# Altium integrated library ON Semi Signal Management Digital POTs.IntLib: 284 symbols (part 3 of 11)
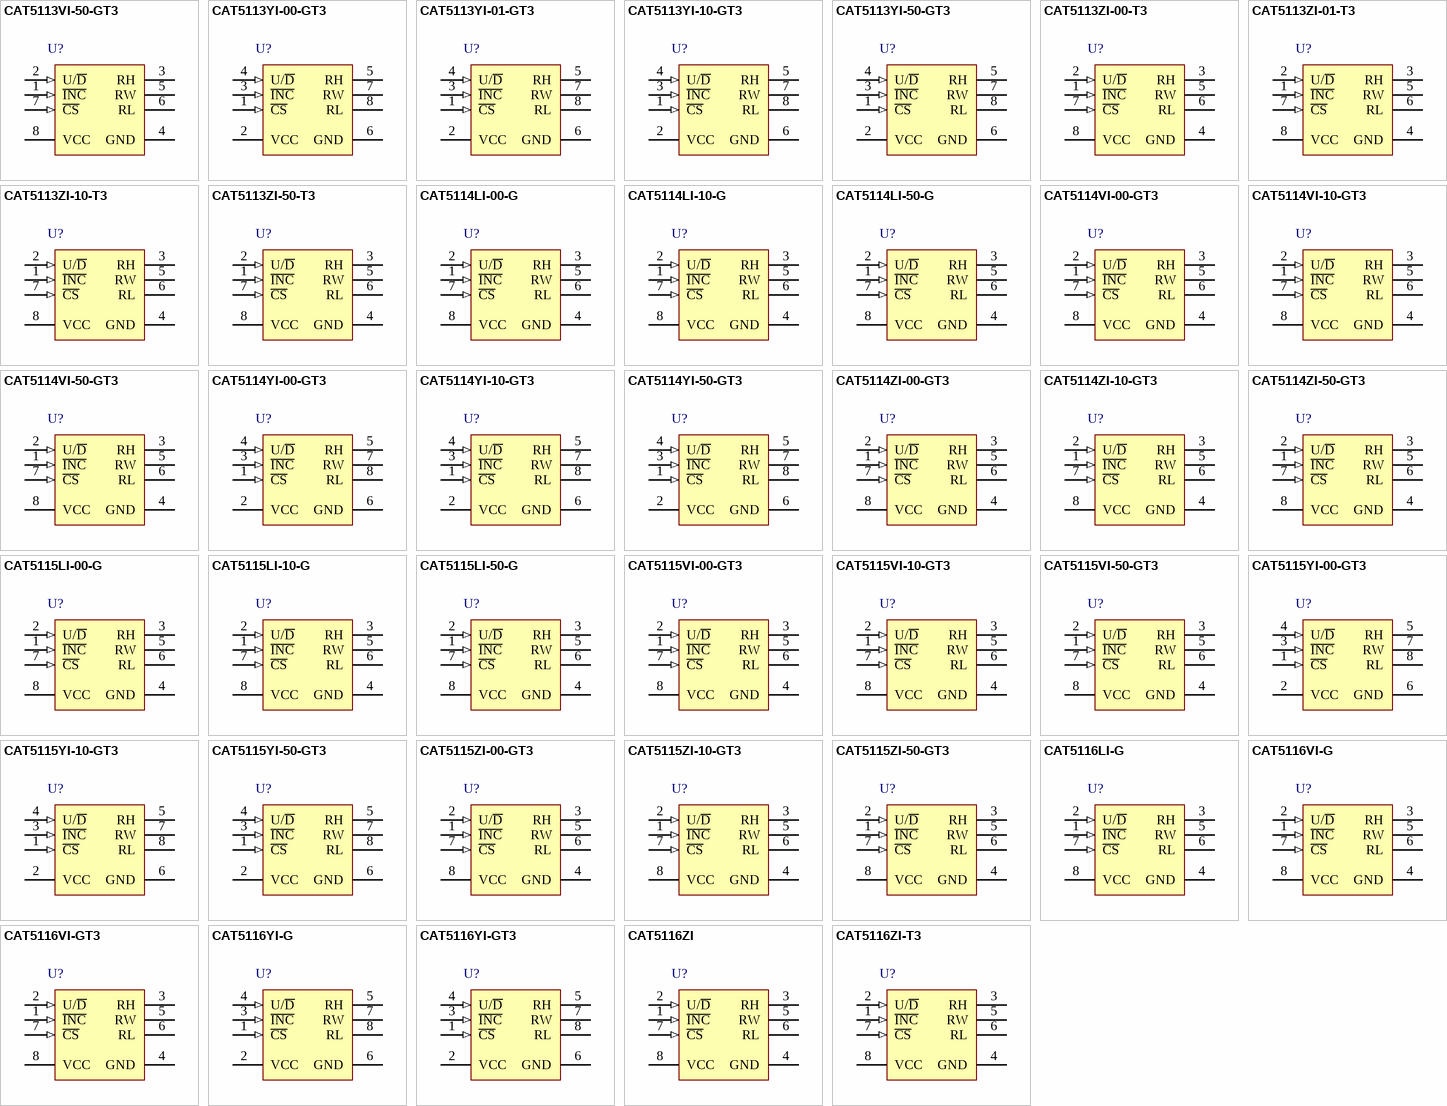
[diagram p11: symbols CAT5113VI-50-GT3 to CAT5116ZI-T3]

## CAT5115VI-10-GT3
designator U?
32 Tap Digital Potentiometer (POT), -40 to 85 degC, 8-Pin SOIC, Pb-Free, Tape and Reel; Manufacturer: On Semiconductor; PartNumber: CAT5115VI-10-GT3; # of Pots: 1; # of Taps: 32; Control Interface: Up/Down; VDD Max (V): 6; DatasheetVersion: Rev. 11; PackageVersion: Rev. O, 12/2008; PackageReference: SOIC-8-751BD-01; PackageDescription: 8-Pin Small Outline Integrated Circuit, Body 4.9 x 3.9 mm, Pitch 1.27 mm; Supplier 1: Mouser; Supplier Part Number 1: 863-CAT5115VI-10-GT3; Packing: Tape and Reel; RoHS: TRUE; Type: Potentiometer; Mounting Technology: Surface Mount; Code_JEDEC: MS-012; ComponentLink1Description: Manufacturer URL; ComponentLink1URL: http://www.onsemi.com/; ComponentLink2Description: Datasheet; ComponentLink2URL: http://www.onsemi.com/pub_link/Collateral/CAT5115-D.PDF; ComponentLink3Description: Package Specification; ComponentLink3URL: http://www.onsemi.com/pub_link/Collateral/751BD.PDF
footprint ONSC-SOIC-8-751BD-01_N (SOIC, 8-Leads, Body 5x4mm, Pitch 1.27mm, IPC Medium Density)
footprint ONSC-SOIC-8-751BD-01_L (SOIC, 8-Leads, Body 5x4mm, Pitch 1.27mm, IPC High Density)
footprint ONSC-SOIC-8-751BD-01_M (SOIC, 8-Leads, Body 5x4mm, Pitch 1.27mm, IPC Low Density)
pins: 1 ~{INC} (in) "Increment Control", 2 U/~{D} (in) "Up/Down Control", 3 RH "Potentiometer High Terminal", 4 GND (power) "Ground", 5 RW, 6 RL "Potentiometer Low Terminal", 7 ~{CS} (in) "Chip Select", 8 VCC (power) "Supply Voltage"

## CAT5115VI-50-GT3
designator U?
32 Tap Digital Potentiometer (POT), -40 to 85 degC, 8-Pin SOIC, Pb-Free, Tape and Reel; Manufacturer: On Semiconductor; PartNumber: CAT5115VI-50-GT3; # of Pots: 1; # of Taps: 32; Control Interface: Up/Down; VDD Max (V): 6; DatasheetVersion: Rev. 11; PackageVersion: Rev. O, 12/2008; PackageReference: SOIC-8-751BD-01; PackageDescription: 8-Pin Small Outline Integrated Circuit, Body 4.9 x 3.9 mm, Pitch 1.27 mm; Supplier 1: Mouser; Supplier Part Number 1: 863-CAT5115VI-50-GT3; Packing: Tape and Reel; RoHS: TRUE; Type: Potentiometer; Mounting Technology: Surface Mount; Code_JEDEC: MS-012; ComponentLink1Description: Manufacturer URL; ComponentLink1URL: http://www.onsemi.com/; ComponentLink2Description: Datasheet; ComponentLink2URL: http://www.onsemi.com/pub_link/Collateral/CAT5115-D.PDF; ComponentLink3Description: Package Specification; ComponentLink3URL: http://www.onsemi.com/pub_link/Collateral/751BD.PDF
footprint ONSC-SOIC-8-751BD-01_N (SOIC, 8-Leads, Body 5x4mm, Pitch 1.27mm, IPC Medium Density)
footprint ONSC-SOIC-8-751BD-01_L (SOIC, 8-Leads, Body 5x4mm, Pitch 1.27mm, IPC High Density)
footprint ONSC-SOIC-8-751BD-01_M (SOIC, 8-Leads, Body 5x4mm, Pitch 1.27mm, IPC Low Density)
pins: 1 ~{INC} (in) "Increment Control", 2 U/~{D} (in) "Up/Down Control", 3 RH "Potentiometer High Terminal", 4 GND (power) "Ground", 5 RW, 6 RL "Potentiometer Low Terminal", 7 ~{CS} (in) "Chip Select", 8 VCC (power) "Supply Voltage"

## CAT5115YI-00-GT3
designator U?
32 Tap Digital Potentiometer (POT), -40 to 85 degC, 8-Pin TSSOP, Pb-Free, Tape and Reel; Manufacturer: On Semiconductor; PartNumber: CAT5115YI-00-GT3; # of Pots: 1; # of Taps: 32; Control Interface: Up/Down; VDD Max (V): 6; DatasheetVersion: Rev. 11; PackageVersion: Rev. O, 12/2008; PackageReference: TSSOP-8-948AL-01; PackageDescription: 8-Pin Small Outline Package, Body 4.4 x 3 mm, Pitch 0.65 mm; Supplier 1: Mouser; Supplier Part Number 1: 863-CAT5115YI-00-GT3; Packing: Tape and Reel; RoHS: TRUE; Type: Potentiometer; Mounting Technology: Surface Mount; Code_JEDEC: MO-153; ComponentLink1Description: Manufacturer URL; ComponentLink1URL: http://www.onsemi.com/; ComponentLink2Description: Datasheet; ComponentLink2URL: http://www.onsemi.com/pub_link/Collateral/CAT5115-D.PDF; ComponentLink3Description: Package Specification; ComponentLink3URL: http://www.onsemi.com/pub/Collateral/948AL.PDF
footprint ONSC-TSSOP-8-948AL-01_N (SOP, 8-Leads, Body 4.5x3.1mm, Pitch 0.65mm, IPC Medium Density)
footprint ONSC-TSSOP-8-948AL-01_L (SOP, 8-Leads, Body 4.5x3.1mm, Pitch 0.65mm, IPC High Density)
footprint ONSC-TSSOP-8-948AL-01_M (SOP, 8-Leads, Body 4.5x3.1mm, Pitch 0.65mm, IPC Low Density)
pins: 1 ~{CS} (in) "Chip Select", 2 VCC (power) "Supply Voltage", 3 ~{INC} (in) "Increment Control", 4 U/~{D} (in) "Up/Down Control", 5 RH "Potentiometer High Terminal", 6 GND (power) "Ground", 7 RW, 8 RL "Potentiometer Low Terminal"

## CAT5115YI-10-GT3
designator U?
32 Tap Digital Potentiometer (POT), -40 to 85 degC, 8-Pin TSSOP, Pb-Free, Tape and Reel; Manufacturer: On Semiconductor; PartNumber: CAT5115YI-10-GT3; # of Pots: 1; # of Taps: 32; Control Interface: Up/Down; VDD Max (V): 6; DatasheetVersion: Rev. 11; PackageVersion: Rev. O, 12/2008; PackageReference: TSSOP-8-948AL-01; PackageDescription: 8-Pin Small Outline Package, Body 4.4 x 3 mm, Pitch 0.65 mm; Supplier 1: Mouser; Supplier Part Number 1: 863-CAT5115YI-10-GT3; Packing: Tape and Reel; RoHS: TRUE; Type: Potentiometer; Mounting Technology: Surface Mount; Code_JEDEC: MO-153; ComponentLink1Description: Manufacturer URL; ComponentLink1URL: http://www.onsemi.com/; ComponentLink2Description: Datasheet; ComponentLink2URL: http://www.onsemi.com/pub_link/Collateral/CAT5115-D.PDF; ComponentLink3Description: Package Specification; ComponentLink3URL: http://www.onsemi.com/pub/Collateral/948AL.PDF
footprint ONSC-TSSOP-8-948AL-01_N (SOP, 8-Leads, Body 4.5x3.1mm, Pitch 0.65mm, IPC Medium Density)
footprint ONSC-TSSOP-8-948AL-01_L (SOP, 8-Leads, Body 4.5x3.1mm, Pitch 0.65mm, IPC High Density)
footprint ONSC-TSSOP-8-948AL-01_M (SOP, 8-Leads, Body 4.5x3.1mm, Pitch 0.65mm, IPC Low Density)
pins: 1 ~{CS} (in) "Chip Select", 2 VCC (power) "Supply Voltage", 3 ~{INC} (in) "Increment Control", 4 U/~{D} (in) "Up/Down Control", 5 RH "Potentiometer High Terminal", 6 GND (power) "Ground", 7 RW, 8 RL "Potentiometer Low Terminal"

## CAT5115YI-50-GT3
designator U?
32 Tap Digital Potentiometer (POT), -40 to 85 degC, 8-Pin TSSOP, Pb-Free, Tape and Reel; Manufacturer: On Semiconductor; PartNumber: CAT5115YI-50-GT3; # of Pots: 1; # of Taps: 32; Control Interface: Up/Down; VDD Max (V): 6; DatasheetVersion: Rev. 11; PackageVersion: Rev. O, 12/2008; PackageReference: TSSOP-8-948AL-01; PackageDescription: 8-Pin Small Outline Package, Body 4.4 x 3 mm, Pitch 0.65 mm; Supplier 1: Mouser; Supplier Part Number 1: 863-CAT5115YI-50-GT3; Packing: Tape and Reel; RoHS: TRUE; Type: Potentiometer; Mounting Technology: Surface Mount; Code_JEDEC: MO-153; ComponentLink1Description: Manufacturer URL; ComponentLink1URL: http://www.onsemi.com/; ComponentLink2Description: Datasheet; ComponentLink2URL: http://www.onsemi.com/pub_link/Collateral/CAT5115-D.PDF; ComponentLink3Description: Package Specification; ComponentLink3URL: http://www.onsemi.com/pub/Collateral/948AL.PDF
footprint ONSC-TSSOP-8-948AL-01_N (SOP, 8-Leads, Body 4.5x3.1mm, Pitch 0.65mm, IPC Medium Density)
footprint ONSC-TSSOP-8-948AL-01_L (SOP, 8-Leads, Body 4.5x3.1mm, Pitch 0.65mm, IPC High Density)
footprint ONSC-TSSOP-8-948AL-01_M (SOP, 8-Leads, Body 4.5x3.1mm, Pitch 0.65mm, IPC Low Density)
pins: 1 ~{CS} (in) "Chip Select", 2 VCC (power) "Supply Voltage", 3 ~{INC} (in) "Increment Control", 4 U/~{D} (in) "Up/Down Control", 5 RH "Potentiometer High Terminal", 6 GND (power) "Ground", 7 RW, 8 RL "Potentiometer Low Terminal"

## CAT5115ZI-00-GT3
designator U?
32 Tap Digital Potentiometer (POT), -40 to 85 degC, 8-Pin MSOP, Pb-Free, Tape and Reel; Manufacturer: On Semiconductor; PartNumber: CAT5115ZI-00-GT3; # of Pots: 1; # of Taps: 32; Control Interface: Up/Down; VDD Max (V): 6; DatasheetVersion: Rev. 11; PackageVersion: Rev. O, 12/2008; PackageReference: MSOP-8-846AD-01_O; PackageDescription: 8-Pin Small Outline Package, Body 3 x 3 mm, Pitch 0.65 mm; Supplier 1: Mouser; Supplier Part Number 1: 863-CAT5115ZI-00-GT3; Packing: Tape and Reel; RoHS: TRUE; Type: Potentiometer; Mounting Technology: Surface Mount; Code_JEDEC: MO-187; ComponentLink1Description: Manufacturer URL; ComponentLink1URL: http://www.onsemi.com/; ComponentLink2Description: Datasheet; ComponentLink2URL: http://www.onsemi.com/pub_link/Collateral/CAT5115-D.PDF; ComponentLink3Description: Package Specification; ComponentLink3URL: http://www.onsemi.com/pub_link/Collateral/846AD.PDF
footprint ONSC-MSOP-8-846AD-01_N (SOP, 8-Leads, Body 3.1x3.1mm, Pitch 0.65mm, IPC Medium Density)
footprint ONSC-MSOP-8-846AD-01_L (SOP, 8-Leads, Body 3.1x3.1mm, Pitch 0.65mm, IPC High Density)
footprint ONSC-MSOP-8-846AD-01_M (SOP, 8-Leads, Body 3.1x3.1mm, Pitch 0.65mm, IPC Low Density)
pins: 1 ~{INC} (in) "Increment Control", 2 U/~{D} (in) "Up/Down Control", 3 RH "Potentiometer High Terminal", 4 GND (power) "Ground", 5 RW, 6 RL "Potentiometer Low Terminal", 7 ~{CS} (in) "Chip Select", 8 VCC (power) "Supply Voltage"

## CAT5115ZI-10-GT3
designator U?
32 Tap Digital Potentiometer (POT), -40 to 85 degC, 8-Pin MSOP, Pb-Free, Tape and Reel; Manufacturer: On Semiconductor; PartNumber: CAT5115ZI-10-GT3; # of Pots: 1; # of Taps: 32; Control Interface: Up/Down; VDD Max (V): 6; DatasheetVersion: Rev. 11; PackageVersion: Rev. O, 12/2008; PackageReference: MSOP-8-846AD-01_O; PackageDescription: 8-Pin Small Outline Package, Body 3 x 3 mm, Pitch 0.65 mm; Supplier 1: Mouser; Supplier Part Number 1: 863-CAT5115ZI-10-GT3; Packing: Tape and Reel; RoHS: TRUE; Type: Potentiometer; Mounting Technology: Surface Mount; Code_JEDEC: MO-187; ComponentLink1Description: Manufacturer URL; ComponentLink1URL: http://www.onsemi.com/; ComponentLink2Description: Datasheet; ComponentLink2URL: http://www.onsemi.com/pub_link/Collateral/CAT5115-D.PDF; ComponentLink3Description: Package Specification; ComponentLink3URL: http://www.onsemi.com/pub_link/Collateral/846AD.PDF
footprint ONSC-MSOP-8-846AD-01_N (SOP, 8-Leads, Body 3.1x3.1mm, Pitch 0.65mm, IPC Medium Density)
footprint ONSC-MSOP-8-846AD-01_L (SOP, 8-Leads, Body 3.1x3.1mm, Pitch 0.65mm, IPC High Density)
footprint ONSC-MSOP-8-846AD-01_M (SOP, 8-Leads, Body 3.1x3.1mm, Pitch 0.65mm, IPC Low Density)
pins: 1 ~{INC} (in) "Increment Control", 2 U/~{D} (in) "Up/Down Control", 3 RH "Potentiometer High Terminal", 4 GND (power) "Ground", 5 RW, 6 RL "Potentiometer Low Terminal", 7 ~{CS} (in) "Chip Select", 8 VCC (power) "Supply Voltage"

## CAT5115ZI-50-GT3
designator U?
32 Tap Digital Potentiometer (POT), -40 to 85 degC, 8-Pin MSOP, Pb-Free, Tape and Reel; Manufacturer: On Semiconductor; PartNumber: CAT5115ZI-50-GT3; # of Pots: 1; # of Taps: 32; Control Interface: Up/Down; VDD Max (V): 6; DatasheetVersion: Rev. 11; PackageVersion: Rev. O, 12/2008; PackageReference: MSOP-8-846AD-01_O; PackageDescription: 8-Pin Small Outline Package, Body 3 x 3 mm, Pitch 0.65 mm; Supplier 1: Mouser; Supplier Part Number 1: 863-CAT5115ZI-50-GT3; Packing: Tape and Reel; RoHS: TRUE; Type: Potentiometer; Mounting Technology: Surface Mount; Code_JEDEC: MO-187; ComponentLink1Description: Manufacturer URL; ComponentLink1URL: http://www.onsemi.com/; ComponentLink2Description: Datasheet; ComponentLink2URL: http://www.onsemi.com/pub_link/Collateral/CAT5115-D.PDF; ComponentLink3Description: Package Specification; ComponentLink3URL: http://www.onsemi.com/pub_link/Collateral/846AD.PDF
footprint ONSC-MSOP-8-846AD-01_N (SOP, 8-Leads, Body 3.1x3.1mm, Pitch 0.65mm, IPC Medium Density)
footprint ONSC-MSOP-8-846AD-01_L (SOP, 8-Leads, Body 3.1x3.1mm, Pitch 0.65mm, IPC High Density)
footprint ONSC-MSOP-8-846AD-01_M (SOP, 8-Leads, Body 3.1x3.1mm, Pitch 0.65mm, IPC Low Density)
pins: 1 ~{INC} (in) "Increment Control", 2 U/~{D} (in) "Up/Down Control", 3 RH "Potentiometer High Terminal", 4 GND (power) "Ground", 5 RW, 6 RL "Potentiometer Low Terminal", 7 ~{CS} (in) "Chip Select", 8 VCC (power) "Supply Voltage"

## CAT5116LI-G
designator U?
Log Taper, 100 Tap Digital Potentiometer (POT), -40 to 85 degC, 8-Pin PDIP, Pb-Free, Tube; Manufacturer: On Semiconductor; PartNumber: CAT5116LI-G; # of Pots: 1; # of Taps: 100; Control Interface: Up/Down; VDD Max (V): 5.5; DatasheetVersion: Rev. 14; PackageVersion: Rev. A, 03/2009; PackageReference: PDIP-8-646AA-01; PackageDescription: 8-Pin Plastic Dual-In Line Package, Body 9.59 x 6.605 mm, Pitch 2.54 mm; Supplier 1: Mouser; Supplier Part Number 1: 698-CAT5116LI-G; Packing: Tube; RoHS: TRUE; Type: Potentiometer; Mounting Technology: Through Hole; Code_JEDEC: MS-001; ComponentLink1Description: Manufacturer URL; ComponentLink1URL: http://www.onsemi.com/; ComponentLink2Description: Datasheet; ComponentLink2URL: http://www.onsemi.com/pub_link/Collateral/CAT5116-D.PDF; ComponentLink3Description: Package Specification; ComponentLink3URL: http://www.onsemi.com/pub_link/Collateral/646AA.PDF
footprint ONSC-PDIP-8-646AA-01 (DIP, 8-Leads, Body 10.15x7.1mm, Pitch 2.54mm)
pins: 1 ~{INC} (in) "Increment Control", 2 U/~{D} (in) "Up/Down Control", 3 RH "Potentiometer High Terminal", 4 GND (power) "Ground", 5 RW, 6 RL "Potentiometer Low Terminal", 7 ~{CS} (in) "Chip Select", 8 VCC (power) "Supply Voltage"

## CAT5116VI-G
designator U?
Log Taper, 100 Tap Digital Potentiometer (POT), -40 to 85 degC, 8-Pin SOIC, Pb-Free, Tube; Manufacturer: On Semiconductor; PartNumber: CAT5116VI-G; # of Pots: 1; # of Taps: 100; Control Interface: Up/Down; VDD Max (V): 5.5; DatasheetVersion: Rev. 14; PackageVersion: Rev. O, 12/2008; PackageReference: SOIC-8-751BD-01; PackageDescription: 8-Pin Small Outline Integrated Circuit, Body 4.9 x 3.9 mm, Pitch 1.27 mm; Supplier 1: Mouser; Supplier Part Number 1: 698-CAT5116VI-G; Packing: Tube; RoHS: TRUE; Type: Potentiometer; Mounting Technology: Surface Mount; Code_JEDEC: MS-012; ComponentLink1Description: Manufacturer URL; ComponentLink1URL: http://www.onsemi.com/; ComponentLink2Description: Datasheet; ComponentLink2URL: http://www.onsemi.com/pub_link/Collateral/CAT5116-D.PDF; ComponentLink3Description: Package Specification; ComponentLink3URL: http://www.onsemi.com/pub_link/Collateral/751BD.PDF
footprint ONSC-SOIC-8-751BD-01_N (SOIC, 8-Leads, Body 5x4mm, Pitch 1.27mm, IPC Medium Density)
footprint ONSC-SOIC-8-751BD-01_L (SOIC, 8-Leads, Body 5x4mm, Pitch 1.27mm, IPC High Density)
footprint ONSC-SOIC-8-751BD-01_M (SOIC, 8-Leads, Body 5x4mm, Pitch 1.27mm, IPC Low Density)
pins: 1 ~{INC} (in) "Increment Control", 2 U/~{D} (in) "Up/Down Control", 3 RH "Potentiometer High Terminal", 4 GND (power) "Ground", 5 RW, 6 RL "Potentiometer Low Terminal", 7 ~{CS} (in) "Chip Select", 8 VCC (power) "Supply Voltage"

## CAT5116VI-GT3
designator U?
Log Taper, 100 Tap Digital Potentiometer (POT), -40 to 85 degC, 8-Pin SOIC, Pb-Free, Tape and Reel; Manufacturer: On Semiconductor; PartNumber: CAT5116VI-GT3; # of Pots: 1; # of Taps: 100; Control Interface: Up/Down; VDD Max (V): 5.5; DatasheetVersion: Rev. 14; PackageVersion: Rev. O, 12/2008; PackageReference: SOIC-8-751BD-01; PackageDescription: 8-Pin Small Outline Integrated Circuit, Body 4.9 x 3.9 mm, Pitch 1.27 mm; Supplier 1: Digi-Key; Supplier Part Number 1: CAT5116VI-GT3-ND; Supplier 2: Newark; Supplier Part Number 2: 06R1186; Supplier 3: Mouser; Supplier Part Number 3: 698-CAT5116VI-GT3; Packing: Tape and Reel; RoHS: TRUE; Type: Potentiometer; Mounting Technology: Surface Mount; Code_JEDEC: MS-012; ComponentLink1Description: Manufacturer URL; ComponentLink1URL: http://www.onsemi.com/; ComponentLink2Description: Datasheet; ComponentLink2URL: http://www.onsemi.com/pub_link/Collateral/CAT5116-D.PDF; ComponentLink3Description: Package Specification; ComponentLink3URL: http://www.onsemi.com/pub_link/Collateral/751BD.PDF
footprint ONSC-SOIC-8-751BD-01_N (SOIC, 8-Leads, Body 5x4mm, Pitch 1.27mm, IPC Medium Density)
footprint ONSC-SOIC-8-751BD-01_L (SOIC, 8-Leads, Body 5x4mm, Pitch 1.27mm, IPC High Density)
footprint ONSC-SOIC-8-751BD-01_M (SOIC, 8-Leads, Body 5x4mm, Pitch 1.27mm, IPC Low Density)
pins: 1 ~{INC} (in) "Increment Control", 2 U/~{D} (in) "Up/Down Control", 3 RH "Potentiometer High Terminal", 4 GND (power) "Ground", 5 RW, 6 RL "Potentiometer Low Terminal", 7 ~{CS} (in) "Chip Select", 8 VCC (power) "Supply Voltage"

## CAT5116YI-G
designator U?
Log Taper, 100 Tap Digital Potentiometer (POT), -40 to 85 degC, 8-Pin TSSOP, Pb-Free, Tube; Manufacturer: On Semiconductor; PartNumber: CAT5116YI-G; # of Pots: 1; # of Taps: 100; Control Interface: Up/Down; VDD Max (V): 5.5; DatasheetVersion: Rev. 14; PackageVersion: Rev. O, 12/2008; PackageReference: TSSOP-8-948AL-01; PackageDescription: 8-Pin Small Outline Package, Body 4.4 x 3 mm, Pitch 0.65 mm; Supplier 1: Mouser; Supplier Part Number 1: N/A; Packing: Tube; RoHS: TRUE; Type: Potentiometer; Mounting Technology: Surface Mount; Code_JEDEC: MO-153; ComponentLink1Description: Manufacturer URL; ComponentLink1URL: http://www.onsemi.com/; ComponentLink2Description: Datasheet; ComponentLink2URL: http://www.onsemi.com/pub_link/Collateral/CAT5116-D.PDF; ComponentLink3Description: Package Specification; ComponentLink3URL: http://www.onsemi.com/pub/Collateral/948AL.PDF
footprint ONSC-TSSOP-8-948AL-01_N (SOP, 8-Leads, Body 4.5x3.1mm, Pitch 0.65mm, IPC Medium Density)
footprint ONSC-TSSOP-8-948AL-01_L (SOP, 8-Leads, Body 4.5x3.1mm, Pitch 0.65mm, IPC High Density)
footprint ONSC-TSSOP-8-948AL-01_M (SOP, 8-Leads, Body 4.5x3.1mm, Pitch 0.65mm, IPC Low Density)
pins: 1 ~{CS} (in) "Chip Select", 2 VCC (power) "Supply Voltage", 3 ~{INC} (in) "Increment Control", 4 U/~{D} (in) "Up/Down Control", 5 RH "Potentiometer High Terminal", 6 GND (power) "Ground", 7 RW, 8 RL "Potentiometer Low Terminal"

## CAT5116YI-GT3
designator U?
Log Taper, 100 Tap Digital Potentiometer (POT), -40 to 85 degC, 8-Pin TSSOP, Pb-Free, Tape and Reel; Manufacturer: On Semiconductor; PartNumber: CAT5116YI-GT3; # of Pots: 1; # of Taps: 100; Control Interface: Up/Down; VDD Max (V): 5.5; DatasheetVersion: Rev. 14; PackageVersion: Rev. O, 12/2008; PackageReference: TSSOP-8-948AL-01; PackageDescription: 8-Pin Small Outline Package, Body 4.4 x 3 mm, Pitch 0.65 mm; Supplier 1: Mouser; Supplier Part Number 1: 863-CAT5116YI-GT3; Packing: Tape and Reel; RoHS: TRUE; Type: Potentiometer; Mounting Technology: Surface Mount; Code_JEDEC: MO-153; ComponentLink1Description: Manufacturer URL; ComponentLink1URL: http://www.onsemi.com/; ComponentLink2Description: Datasheet; ComponentLink2URL: http://www.onsemi.com/pub_link/Collateral/CAT5116-D.PDF; ComponentLink3Description: Package Specification; ComponentLink3URL: http://www.onsemi.com/pub/Collateral/948AL.PDF
footprint ONSC-TSSOP-8-948AL-01_N (SOP, 8-Leads, Body 4.5x3.1mm, Pitch 0.65mm, IPC Medium Density)
footprint ONSC-TSSOP-8-948AL-01_L (SOP, 8-Leads, Body 4.5x3.1mm, Pitch 0.65mm, IPC High Density)
footprint ONSC-TSSOP-8-948AL-01_M (SOP, 8-Leads, Body 4.5x3.1mm, Pitch 0.65mm, IPC Low Density)
pins: 1 ~{CS} (in) "Chip Select", 2 VCC (power) "Supply Voltage", 3 ~{INC} (in) "Increment Control", 4 U/~{D} (in) "Up/Down Control", 5 RH "Potentiometer High Terminal", 6 GND (power) "Ground", 7 RW, 8 RL "Potentiometer Low Terminal"

## CAT5116ZI
designator U?
Log Taper, 100 Tap Digital Potentiometer (POT), -40 to 85 degC, 8-Pin MSOP, Pb-Free, Tube; Manufacturer: On Semiconductor; PartNumber: CAT5116ZI; # of Pots: 1; # of Taps: 100; Control Interface: Up/Down; VDD Max (V): 5.5; DatasheetVersion: Rev. 14; PackageVersion: Rev. O, 12/2008; PackageReference: MSOP-8-846AD-01_O; PackageDescription: 8-Pin Small Outline Package, Body 3 x 3 mm, Pitch 0.65 mm; Supplier 1: Mouser; Supplier Part Number 1: 698-CAT5116ZI; Packing: Tube; RoHS: TRUE; Type: Potentiometer; Mounting Technology: Surface Mount; Code_JEDEC: MO-187; ComponentLink1Description: Manufacturer URL; ComponentLink1URL: http://www.onsemi.com/; ComponentLink2Description: Datasheet; ComponentLink2URL: http://www.onsemi.com/pub_link/Collateral/CAT5116-D.PDF; ComponentLink3Description: Package Specification; ComponentLink3URL: http://www.onsemi.com/pub_link/Collateral/846AD.PDF
footprint ONSC-MSOP-8-846AD-01_N (SOP, 8-Leads, Body 3.1x3.1mm, Pitch 0.65mm, IPC Medium Density)
footprint ONSC-MSOP-8-846AD-01_L (SOP, 8-Leads, Body 3.1x3.1mm, Pitch 0.65mm, IPC High Density)
footprint ONSC-MSOP-8-846AD-01_M (SOP, 8-Leads, Body 3.1x3.1mm, Pitch 0.65mm, IPC Low Density)
pins: 1 ~{INC} (in) "Increment Control", 2 U/~{D} (in) "Up/Down Control", 3 RH "Potentiometer High Terminal", 4 GND (power) "Ground", 5 RW, 6 RL "Potentiometer Low Terminal", 7 ~{CS} (in) "Chip Select", 8 VCC (power) "Supply Voltage"

## CAT5116ZI-T3
designator U?
Log Taper, 100 Tap Digital Potentiometer (POT), -40 to 85 degC, 8-Pin MSOP, Pb-Free, Tape and Reel; Manufacturer: On Semiconductor; PartNumber: CAT5116ZI-T3; # of Pots: 1; # of Taps: 100; Control Interface: Up/Down; VDD Max (V): 5.5; DatasheetVersion: Rev. 14; PackageVersion: Rev. O, 12/2008; PackageReference: MSOP-8-846AD-01_O; PackageDescription: 8-Pin Small Outline Package, Body 3 x 3 mm, Pitch 0.65 mm; Supplier 1: Digi-Key; Supplier Part Number 1: CAT5116ZI-T3-ND; Supplier 2: Newark; Supplier Part Number 2: 06R1189; Supplier 3: Mouser; Supplier Part Number 3: 698-CAT5116ZI-T3; Packing: Tape and Reel; RoHS: TRUE; Type: Potentiometer; Mounting Technology: Surface Mount; Code_JEDEC: MO-187; ComponentLink1Description: Manufacturer URL; ComponentLink1URL: http://www.onsemi.com/; ComponentLink2Description: Datasheet; ComponentLink2URL: http://www.onsemi.com/pub_link/Collateral/CAT5116-D.PDF; ComponentLink3Description: Package Specification; ComponentLink3URL: http://www.onsemi.com/pub_link/Collateral/846AD.PDF
footprint ONSC-MSOP-8-846AD-01_N (SOP, 8-Leads, Body 3.1x3.1mm, Pitch 0.65mm, IPC Medium Density)
footprint ONSC-MSOP-8-846AD-01_L (SOP, 8-Leads, Body 3.1x3.1mm, Pitch 0.65mm, IPC High Density)
footprint ONSC-MSOP-8-846AD-01_M (SOP, 8-Leads, Body 3.1x3.1mm, Pitch 0.65mm, IPC Low Density)
pins: 1 ~{INC} (in) "Increment Control", 2 U/~{D} (in) "Up/Down Control", 3 RH "Potentiometer High Terminal", 4 GND (power) "Ground", 5 RW, 6 RL "Potentiometer Low Terminal", 7 ~{CS} (in) "Chip Select", 8 VCC (power) "Supply Voltage"

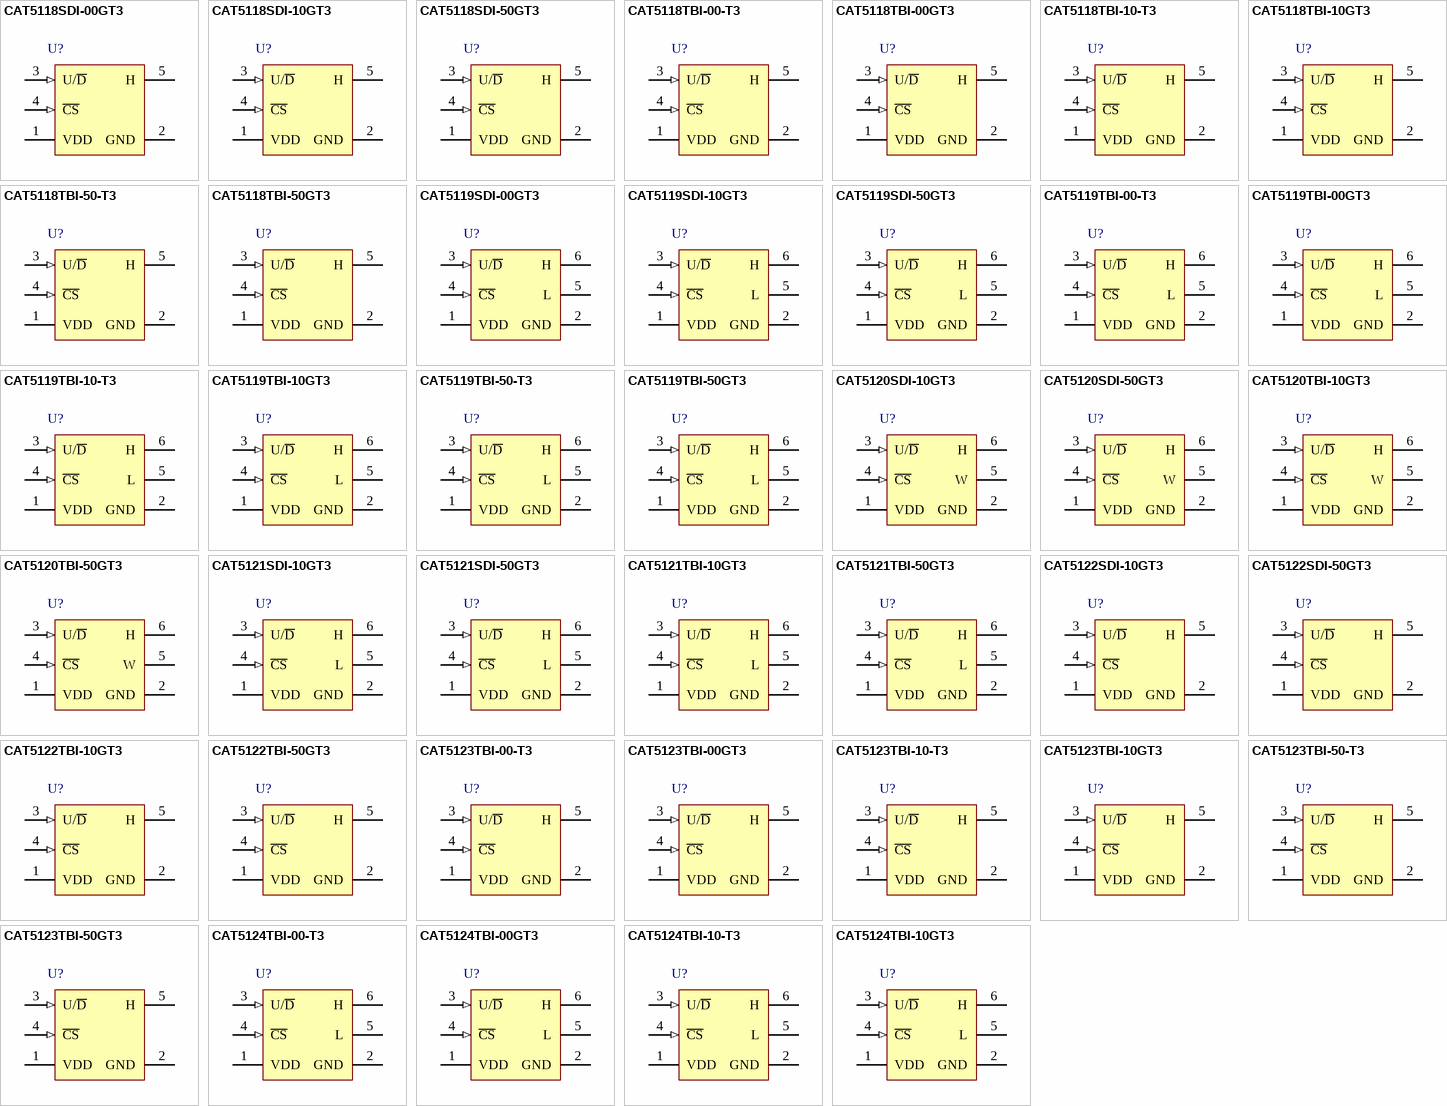
[diagram p2: symbols CAT5118SDI-00GT3 to CAT5124TBI-10GT3]

## CAT5118SDI-00GT3
designator U?
32 Tap Digital Potentiometer (POT) with 2-Wire Interface, -40 to 85 degC, 5-Pin SC70, Pb-Free, Tape and Reel; Manufacturer: On Semiconductor; PartNumber: CAT5118SDI-00GT3; # of Pots: 1; # of Taps: 32; Control Interface: Up/Down; VDD Max (V): 5.5; DatasheetVersion: Rev. 13; PackageVersion: Rev. A, 06/2010; PackageReference: SC70-5-419AC-01; PackageDescription: 5-Pin Small Outline Transistor, Body 2 x 1.25 mm, Pitch 0.65 mm; Supplier 1: Digi-Key; Supplier Part Number 1: CAT5118SDI-00GT3-ND; Supplier 2: Mouser; Supplier Part Number 2: 863-CAT5118SDI-00GT3; Packing: Tape and Reel; RoHS: TRUE; Type: Rheostat; Mounting Technology: Surface Mount; Code_JEDEC: MO-203; ComponentLink1Description: Manufacturer URL; ComponentLink1URL: http://www.onsemi.com/; ComponentLink2Description: Datasheet; ComponentLink2URL: http://www.onsemi.com/pub_link/Collateral/CAT5118-D.PDF; ComponentLink3Description: Package Specification; ComponentLink3URL: http://www.onsemi.com/pub_link/Collateral/419AC.PDF
footprint ONSC-SC70-5-419AC-01_N (SOT23, 5-Leads, Body 2.2x1.35mm, Pitch 0.65mm, IPC Medium Density)
footprint ONSC-SC70-5-419AC-01_L (SOT23, 5-Leads, Body 2.2x1.35mm, Pitch 0.65mm, IPC High Density)
footprint ONSC-SC70-5-419AC-01_M (SOT23, 5-Leads, Body 2.2x1.35mm, Pitch 0.65mm, IPC Low Density)
pins: 1 VDD (power) "Power Supply", 2 GND (power) "Ground", 3 U/~{D} (in) "Up/D\o\w\n\ Control Input. With C\S\ low, a low-to-high transition increments or decrements the wiper position.", 4 ~{CS} (in) "Chip Select Input. A high-to-low C\S\ transition determines the mode: increment if U/D\ is high, or decrement if U/D\ is low.", 5 H "High Terminal of Resistor"

## CAT5118SDI-10GT3
designator U?
32 Tap Digital Potentiometer (POT) with 2-Wire Interface, -40 to 85 degC, 5-Pin SC70, Pb-Free, Tape and Reel; Manufacturer: On Semiconductor; PartNumber: CAT5118SDI-10GT3; # of Pots: 1; # of Taps: 32; Control Interface: Up/Down; VDD Max (V): 5.5; DatasheetVersion: Rev. 13; PackageVersion: Rev. A, 06/2010; PackageReference: SC70-5-419AC-01; PackageDescription: 5-Pin Small Outline Transistor, Body 2 x 1.25 mm, Pitch 0.65 mm; Supplier 1: Digi-Key; Supplier Part Number 1: CAT5118SDI-10GT3-ND; Supplier 2: Mouser; Supplier Part Number 2: 863-CAT5118SDI-10GT3; Packing: Tape and Reel; RoHS: TRUE; Type: Rheostat; Mounting Technology: Surface Mount; Code_JEDEC: MO-203; ComponentLink1Description: Manufacturer URL; ComponentLink1URL: http://www.onsemi.com/; ComponentLink2Description: Datasheet; ComponentLink2URL: http://www.onsemi.com/pub_link/Collateral/CAT5118-D.PDF; ComponentLink3Description: Package Specification; ComponentLink3URL: http://www.onsemi.com/pub_link/Collateral/419AC.PDF
footprint ONSC-SC70-5-419AC-01_N (SOT23, 5-Leads, Body 2.2x1.35mm, Pitch 0.65mm, IPC Medium Density)
footprint ONSC-SC70-5-419AC-01_L (SOT23, 5-Leads, Body 2.2x1.35mm, Pitch 0.65mm, IPC High Density)
footprint ONSC-SC70-5-419AC-01_M (SOT23, 5-Leads, Body 2.2x1.35mm, Pitch 0.65mm, IPC Low Density)
pins: 1 VDD (power) "Power Supply", 2 GND (power) "Ground", 3 U/~{D} (in) "Up/D\o\w\n\ Control Input. With C\S\ low, a low-to-high transition increments or decrements the wiper position.", 4 ~{CS} (in) "Chip Select Input. A high-to-low C\S\ transition determines the mode: increment if U/D\ is high, or decrement if U/D\ is low.", 5 H "High Terminal of Resistor"

## CAT5118SDI-50GT3
designator U?
32 Tap Digital Potentiometer (POT) with 2-Wire Interface, -40 to 85 degC, 5-Pin SC70, Pb-Free, Tape and Reel; Manufacturer: On Semiconductor; PartNumber: CAT5118SDI-50GT3; # of Pots: 1; # of Taps: 32; Control Interface: Up/Down; VDD Max (V): 5.5; DatasheetVersion: Rev. 13; PackageVersion: Rev. A, 06/2010; PackageReference: SC70-5-419AC-01; PackageDescription: 5-Pin Small Outline Transistor, Body 2 x 1.25 mm, Pitch 0.65 mm; Supplier 1: Digi-Key; Supplier Part Number 1: CAT5118SDI-50GT3-ND; Supplier 2: Mouser; Supplier Part Number 2: 863-CAT5118SDI-50GT3; Packing: Tape and Reel; RoHS: TRUE; Type: Rheostat; Mounting Technology: Surface Mount; Code_JEDEC: MO-203; ComponentLink1Description: Manufacturer URL; ComponentLink1URL: http://www.onsemi.com/; ComponentLink2Description: Datasheet; ComponentLink2URL: http://www.onsemi.com/pub_link/Collateral/CAT5118-D.PDF; ComponentLink3Description: Package Specification; ComponentLink3URL: http://www.onsemi.com/pub_link/Collateral/419AC.PDF
footprint ONSC-SC70-5-419AC-01_N (SOT23, 5-Leads, Body 2.2x1.35mm, Pitch 0.65mm, IPC Medium Density)
footprint ONSC-SC70-5-419AC-01_L (SOT23, 5-Leads, Body 2.2x1.35mm, Pitch 0.65mm, IPC High Density)
footprint ONSC-SC70-5-419AC-01_M (SOT23, 5-Leads, Body 2.2x1.35mm, Pitch 0.65mm, IPC Low Density)
pins: 1 VDD (power) "Power Supply", 2 GND (power) "Ground", 3 U/~{D} (in) "Up/D\o\w\n\ Control Input. With C\S\ low, a low-to-high transition increments or decrements the wiper position.", 4 ~{CS} (in) "Chip Select Input. A high-to-low C\S\ transition determines the mode: increment if U/D\ is high, or decrement if U/D\ is low.", 5 H "High Terminal of Resistor"

## CAT5118TBI-00-T3
designator U?
32 Tap Digital Potentiometer (POT) with 2-Wire Interface, -40 to 85 degC, 5-Pin SOT23, Pb-Free, Tape and Reel; Manufacturer: On Semiconductor; PartNumber: CAT5118TBI-00-T3; # of Pots: 1; # of Taps: 32; Control Interface: Up/Down; VDD Max (V): 5.5; DatasheetVersion: Rev. 13; PackageVersion: Rev. O, 12/2008; PackageReference: SOT23-5-527AH-01; PackageDescription: 5-Pin Small Outline Transistor, Body 2.9 x 1.6 mm, Pitch 0.95 mm; Supplier 1: Digi-Key; Supplier Part Number 1: CAT5118TBI-00-T3CT-ND; Supplier 2: Digi-Key; Supplier Part Number 2: CAT5118TBI-00-T3DKR-ND; Packing: Tape and Reel; RoHS: TRUE; Type: Rheostat; Mounting Technology: Surface Mount; Code_JEDEC: MO-178; ComponentLink1Description: Manufacturer URL; ComponentLink1URL: http://www.onsemi.com/; ComponentLink2Description: Datasheet; ComponentLink2URL: http://www.onsemi.com/pub_link/Collateral/CAT5118-D.PDF; ComponentLink3Description: Package Specification; ComponentLink3URL: http://www.onsemi.com/pub_link/Collateral/527AH.PDF
footprint ONSC-SOT23-5-527AH-01_N (SOT23, 5-Leads, Body 2.9x1.6mm, Pitch 0.95mm, IPC Medium Density)
footprint ONSC-SOT23-5-527AH-01_L (SOT23, 5-Leads, Body 2.9x1.6mm, Pitch 0.95mm, IPC High Density)
footprint ONSC-SOT23-5-527AH-01_M (SOT23, 5-Leads, Body 2.9x1.6mm, Pitch 0.95mm, IPC Low Density)
pins: 1 VDD (power) "Power Supply", 2 GND (power) "Ground", 3 U/~{D} (in) "Up/D\o\w\n\ Control Input. With C\S\ low, a low-to-high transition increments or decrements the wiper position.", 4 ~{CS} (in) "Chip Select Input. A high-to-low C\S\ transition determines the mode: increment if U/D\ is high, or decrement if U/D\ is low.", 5 H "High Terminal of Resistor"

## CAT5118TBI-00GT3
designator U?
32 Tap Digital Potentiometer (POT) with 2-Wire Interface, -40 to 85 degC, 5-Pin SOT23, Pb-Free, Tape and Reel; Manufacturer: On Semiconductor; PartNumber: CAT5118TBI-00GT3; # of Pots: 1; # of Taps: 32; Control Interface: Up/Down; VDD Max (V): 5.5; DatasheetVersion: Rev. 13; PackageVersion: Rev. O, 12/2008; PackageReference: SOT23-5-527AH-01; PackageDescription: 5-Pin Small Outline Transistor, Body 2.9 x 1.6 mm, Pitch 0.95 mm; Supplier 1: Digi-Key; Supplier Part Number 1: CAT5118TBI-00GT3-ND; Supplier 2: Mouser; Supplier Part Number 2: 863-CAT5118TBI-00GT3; Packing: Tape and Reel; RoHS: TRUE; Type: Rheostat; Mounting Technology: Surface Mount; Code_JEDEC: MO-178; ComponentLink1Description: Manufacturer URL; ComponentLink1URL: http://www.onsemi.com/; ComponentLink2Description: Datasheet; ComponentLink2URL: http://www.onsemi.com/pub_link/Collateral/CAT5118-D.PDF; ComponentLink3Description: Package Specification; ComponentLink3URL: http://www.onsemi.com/pub_link/Collateral/527AH.PDF
footprint ONSC-SOT23-5-527AH-01_N (SOT23, 5-Leads, Body 2.9x1.6mm, Pitch 0.95mm, IPC Medium Density)
footprint ONSC-SOT23-5-527AH-01_L (SOT23, 5-Leads, Body 2.9x1.6mm, Pitch 0.95mm, IPC High Density)
footprint ONSC-SOT23-5-527AH-01_M (SOT23, 5-Leads, Body 2.9x1.6mm, Pitch 0.95mm, IPC Low Density)
pins: 1 VDD (power) "Power Supply", 2 GND (power) "Ground", 3 U/~{D} (in) "Up/D\o\w\n\ Control Input. With C\S\ low, a low-to-high transition increments or decrements the wiper position.", 4 ~{CS} (in) "Chip Select Input. A high-to-low C\S\ transition determines the mode: increment if U/D\ is high, or decrement if U/D\ is low.", 5 H "High Terminal of Resistor"

## CAT5118TBI-10-T3
designator U?
32 Tap Digital Potentiometer (POT) with 2-Wire Interface, -40 to 85 degC, 5-Pin SOT23, Pb-Free, Tape and Reel; Manufacturer: On Semiconductor; PartNumber: CAT5118TBI-10-T3; # of Pots: 1; # of Taps: 32; Control Interface: Up/Down; VDD Max (V): 5.5; DatasheetVersion: Rev. 13; PackageVersion: Rev. O, 12/2008; PackageReference: SOT23-5-527AH-01; PackageDescription: 5-Pin Small Outline Transistor, Body 2.9 x 1.6 mm, Pitch 0.95 mm; Supplier 1: Digi-Key; Supplier Part Number 1: CAT5118TBI-10-T3-ND; Supplier 2: Mouser; Supplier Part Number 2: 698-CAT5118TBI-10-T3; Packing: Tape and Reel; RoHS: TRUE; Type: Rheostat; Mounting Technology: Surface Mount; Code_JEDEC: MO-178; ComponentLink1Description: Manufacturer URL; ComponentLink1URL: http://www.onsemi.com/; ComponentLink2Description: Datasheet; ComponentLink2URL: http://www.onsemi.com/pub_link/Collateral/CAT5118-D.PDF; ComponentLink3Description: Package Specification; ComponentLink3URL: http://www.onsemi.com/pub_link/Collateral/527AH.PDF
footprint ONSC-SOT23-5-527AH-01_N (SOT23, 5-Leads, Body 2.9x1.6mm, Pitch 0.95mm, IPC Medium Density)
footprint ONSC-SOT23-5-527AH-01_L (SOT23, 5-Leads, Body 2.9x1.6mm, Pitch 0.95mm, IPC High Density)
footprint ONSC-SOT23-5-527AH-01_M (SOT23, 5-Leads, Body 2.9x1.6mm, Pitch 0.95mm, IPC Low Density)
pins: 1 VDD (power) "Power Supply", 2 GND (power) "Ground", 3 U/~{D} (in) "Up/D\o\w\n\ Control Input. With C\S\ low, a low-to-high transition increments or decrements the wiper position.", 4 ~{CS} (in) "Chip Select Input. A high-to-low C\S\ transition determines the mode: increment if U/D\ is high, or decrement if U/D\ is low.", 5 H "High Terminal of Resistor"

## CAT5118TBI-10GT3
designator U?
32 Tap Digital Potentiometer (POT) with 2-Wire Interface, -40 to 85 degC, 5-Pin SOT23, Pb-Free, Tape and Reel; Manufacturer: On Semiconductor; PartNumber: CAT5118TBI-10GT3; # of Pots: 1; # of Taps: 32; Control Interface: Up/Down; VDD Max (V): 5.5; DatasheetVersion: Rev. 13; PackageVersion: Rev. O, 12/2008; PackageReference: SOT23-5-527AH-01; PackageDescription: 5-Pin Small Outline Transistor, Body 2.9 x 1.6 mm, Pitch 0.95 mm; Supplier 1: Digi-Key; Supplier Part Number 1: CAT5118TBI-10GT3-ND; Supplier 2: Mouser; Supplier Part Number 2: 863-CAT5118TBI-10GT3; Packing: Tape and Reel; RoHS: TRUE; Type: Rheostat; Mounting Technology: Surface Mount; Code_JEDEC: MO-178; ComponentLink1Description: Manufacturer URL; ComponentLink1URL: http://www.onsemi.com/; ComponentLink2Description: Datasheet; ComponentLink2URL: http://www.onsemi.com/pub_link/Collateral/CAT5118-D.PDF; ComponentLink3Description: Package Specification; ComponentLink3URL: http://www.onsemi.com/pub_link/Collateral/527AH.PDF
footprint ONSC-SOT23-5-527AH-01_N (SOT23, 5-Leads, Body 2.9x1.6mm, Pitch 0.95mm, IPC Medium Density)
footprint ONSC-SOT23-5-527AH-01_L (SOT23, 5-Leads, Body 2.9x1.6mm, Pitch 0.95mm, IPC High Density)
footprint ONSC-SOT23-5-527AH-01_M (SOT23, 5-Leads, Body 2.9x1.6mm, Pitch 0.95mm, IPC Low Density)
pins: 1 VDD (power) "Power Supply", 2 GND (power) "Ground", 3 U/~{D} (in) "Up/D\o\w\n\ Control Input. With C\S\ low, a low-to-high transition increments or decrements the wiper position.", 4 ~{CS} (in) "Chip Select Input. A high-to-low C\S\ transition determines the mode: increment if U/D\ is high, or decrement if U/D\ is low.", 5 H "High Terminal of Resistor"

## CAT5118TBI-50-T3
designator U?
32 Tap Digital Potentiometer (POT) with 2-Wire Interface, -40 to 85 degC, 5-Pin SOT23, Pb-Free, Tape and Reel; Manufacturer: On Semiconductor; PartNumber: CAT5118TBI-50-T3; # of Pots: 1; # of Taps: 32; Control Interface: Up/Down; VDD Max (V): 5.5; DatasheetVersion: Rev. 13; PackageVersion: Rev. O, 12/2008; PackageReference: SOT23-5-527AH-01; PackageDescription: 5-Pin Small Outline Transistor, Body 2.9 x 1.6 mm, Pitch 0.95 mm; Packing: Tape and Reel; RoHS: TRUE; Type: Rheostat; Mounting Technology: Surface Mount; Code_JEDEC: MO-178; ComponentLink1Description: Manufacturer URL; ComponentLink1URL: http://www.onsemi.com/; ComponentLink2Description: Datasheet; ComponentLink2URL: http://www.onsemi.com/pub_link/Collateral/CAT5118-D.PDF; ComponentLink3Description: Package Specification; ComponentLink3URL: http://www.onsemi.com/pub_link/Collateral/527AH.PDF
footprint ONSC-SOT23-5-527AH-01_N (SOT23, 5-Leads, Body 2.9x1.6mm, Pitch 0.95mm, IPC Medium Density)
footprint ONSC-SOT23-5-527AH-01_L (SOT23, 5-Leads, Body 2.9x1.6mm, Pitch 0.95mm, IPC High Density)
footprint ONSC-SOT23-5-527AH-01_M (SOT23, 5-Leads, Body 2.9x1.6mm, Pitch 0.95mm, IPC Low Density)
pins: 1 VDD (power) "Power Supply", 2 GND (power) "Ground", 3 U/~{D} (in) "Up/D\o\w\n\ Control Input. With C\S\ low, a low-to-high transition increments or decrements the wiper position.", 4 ~{CS} (in) "Chip Select Input. A high-to-low C\S\ transition determines the mode: increment if U/D\ is high, or decrement if U/D\ is low.", 5 H "High Terminal of Resistor"

## CAT5118TBI-50GT3
designator U?
32 Tap Digital Potentiometer (POT) with 2-Wire Interface, -40 to 85 degC, 5-Pin SOT23, Pb-Free, Tape and Reel; Manufacturer: On Semiconductor; PartNumber: CAT5118TBI-50GT3; # of Pots: 1; # of Taps: 32; Control Interface: Up/Down; VDD Max (V): 5.5; DatasheetVersion: Rev. 13; PackageVersion: Rev. O, 12/2008; PackageReference: SOT23-5-527AH-01; PackageDescription: 5-Pin Small Outline Transistor, Body 2.9 x 1.6 mm, Pitch 0.95 mm; Supplier 1: Digi-Key; Supplier Part Number 1: CAT5118TBI-50GT3CT-ND; Supplier 2: Digi-Key; Supplier Part Number 2: CAT5118TBI-50GT3DKR-ND; Supplier 3: Mouser; Supplier Part Number 3: 863-CAT5118TBI-50GT3; Packing: Tape and Reel; RoHS: TRUE; Type: Rheostat; Mounting Technology: Surface Mount; Code_JEDEC: MO-178; ComponentLink1Description: Manufacturer URL; ComponentLink1URL: http://www.onsemi.com/; ComponentLink2Description: Datasheet; ComponentLink2URL: http://www.onsemi.com/pub_link/Collateral/CAT5118-D.PDF; ComponentLink3Description: Package Specification; ComponentLink3URL: http://www.onsemi.com/pub_link/Collateral/527AH.PDF
footprint ONSC-SOT23-5-527AH-01_N (SOT23, 5-Leads, Body 2.9x1.6mm, Pitch 0.95mm, IPC Medium Density)
footprint ONSC-SOT23-5-527AH-01_L (SOT23, 5-Leads, Body 2.9x1.6mm, Pitch 0.95mm, IPC High Density)
footprint ONSC-SOT23-5-527AH-01_M (SOT23, 5-Leads, Body 2.9x1.6mm, Pitch 0.95mm, IPC Low Density)
pins: 1 VDD (power) "Power Supply", 2 GND (power) "Ground", 3 U/~{D} (in) "Up/D\o\w\n\ Control Input. With C\S\ low, a low-to-high transition increments or decrements the wiper position.", 4 ~{CS} (in) "Chip Select Input. A high-to-low C\S\ transition determines the mode: increment if U/D\ is high, or decrement if U/D\ is low.", 5 H "High Terminal of Resistor"

## CAT5119SDI-00GT3
designator U?
32 Tap Digital Potentiometer (POT) with 2-Wire Interface, -40 to 85 degC, 6-Pin SC70, Pb-Free, Tape and Reel; Manufacturer: On Semiconductor; PartNumber: CAT5119SDI-00GT3; # of Pots: 1; # of Taps: 32; Control Interface: Up/Down; VDD Max (V): 5.5; DatasheetVersion: Rev. 13; PackageVersion: Rev. A, 07/2010; PackageReference: SC70-6-419AD-01; PackageDescription: 6-Pin Small Outline Transistor, Body 2 x 1.25 mm, Pitch 0.65 mm; Supplier 1: Digi-Key; Supplier Part Number 1: CAT5119SDI-00GT3-ND; Supplier 2: Mouser; Supplier Part Number 2: 863-CAT5119SDI-00GT3; Packing: Tape and Reel; RoHS: TRUE; Type: Rheostat; Mounting Technology: Surface Mount; Code_JEDEC: MO-203; ComponentLink1Description: Manufacturer URL; ComponentLink1URL: http://www.onsemi.com/; ComponentLink2Description: Datasheet; ComponentLink2URL: http://www.onsemi.com/pub_link/Collateral/CAT5119-D.PDF; ComponentLink3Description: Package Specification; ComponentLink3URL: http://www.onsemi.com/pub_link/Collateral/419AD.PDF
footprint ONSC-SC70-6-419AD-01_N (SOT23, 6-Leads, Body 2.2x1.35mm, Pitch 0.65mm, IPC Medium Density)
footprint ONSC-SC70-6-419AD-01_L (SOT23, 6-Leads, Body 2.2x1.35mm, Pitch 0.65mm, IPC High Density)
footprint ONSC-SC70-6-419AD-01_M (SOT23, 6-Leads, Body 2.2x1.35mm, Pitch 0.65mm, IPC Low Density)
pins: 1 VDD (power) "Power Supply", 2 GND (power) "Ground", 3 U/~{D} (in) "Up/D\o\w\n\ Control Input. With C\S\ low, a low-to-high transition increments or decrements the wiper position.", 4 ~{CS} (in) "Chip Select Input. A high-to-low C\S\ transition determines the mode: increment if U/D\ is high, or decrement if U/D\ is low.", 5 L "Low Terminal of Resistor", 6 H "High Terminal of Resistor"

## CAT5119SDI-10GT3
designator U?
32 Tap Digital Potentiometer (POT) with 2-Wire Interface, -40 to 85 degC, 6-Pin SC70, Pb-Free, Tape and Reel; Manufacturer: On Semiconductor; PartNumber: CAT5119SDI-10GT3; # of Pots: 1; # of Taps: 32; Control Interface: Up/Down; VDD Max (V): 5.5; DatasheetVersion: Rev. 13; PackageVersion: Rev. A, 07/2010; PackageReference: SC70-6-419AD-01; PackageDescription: 6-Pin Small Outline Transistor, Body 2 x 1.25 mm, Pitch 0.65 mm; Supplier 1: Digi-Key; Supplier Part Number 1: CAT5119SDI-10GT3-ND; Supplier 2: Mouser; Supplier Part Number 2: 863-CAT5119SDI-10GT3; Packing: Tape and Reel; RoHS: TRUE; Type: Rheostat; Mounting Technology: Surface Mount; Code_JEDEC: MO-203; ComponentLink1Description: Manufacturer URL; ComponentLink1URL: http://www.onsemi.com/; ComponentLink2Description: Datasheet; ComponentLink2URL: http://www.onsemi.com/pub_link/Collateral/CAT5119-D.PDF; ComponentLink3Description: Package Specification; ComponentLink3URL: http://www.onsemi.com/pub_link/Collateral/419AD.PDF
footprint ONSC-SC70-6-419AD-01_N (SOT23, 6-Leads, Body 2.2x1.35mm, Pitch 0.65mm, IPC Medium Density)
footprint ONSC-SC70-6-419AD-01_L (SOT23, 6-Leads, Body 2.2x1.35mm, Pitch 0.65mm, IPC High Density)
footprint ONSC-SC70-6-419AD-01_M (SOT23, 6-Leads, Body 2.2x1.35mm, Pitch 0.65mm, IPC Low Density)
pins: 1 VDD (power) "Power Supply", 2 GND (power) "Ground", 3 U/~{D} (in) "Up/D\o\w\n\ Control Input. With C\S\ low, a low-to-high transition increments or decrements the wiper position.", 4 ~{CS} (in) "Chip Select Input. A high-to-low C\S\ transition determines the mode: increment if U/D\ is high, or decrement if U/D\ is low.", 5 L "Low Terminal of Resistor", 6 H "High Terminal of Resistor"

## CAT5119SDI-50GT3
designator U?
32 Tap Digital Potentiometer (POT) with 2-Wire Interface, -40 to 85 degC, 6-Pin SC70, Pb-Free, Tape and Reel; Manufacturer: On Semiconductor; PartNumber: CAT5119SDI-50GT3; # of Pots: 1; # of Taps: 32; Control Interface: Up/Down; VDD Max (V): 5.5; DatasheetVersion: Rev. 13; PackageVersion: Rev. A, 07/2010; PackageReference: SC70-6-419AD-01; PackageDescription: 6-Pin Small Outline Transistor, Body 2 x 1.25 mm, Pitch 0.65 mm; Supplier 1: Digi-Key; Supplier Part Number 1: CAT5119SDI-50GT3-ND; Supplier 2: Mouser; Supplier Part Number 2: 863-CAT5119SDI-50GT3; Packing: Tape and Reel; RoHS: TRUE; Type: Rheostat; Mounting Technology: Surface Mount; Code_JEDEC: MO-203; ComponentLink1Description: Manufacturer URL; ComponentLink1URL: http://www.onsemi.com/; ComponentLink2Description: Datasheet; ComponentLink2URL: http://www.onsemi.com/pub_link/Collateral/CAT5119-D.PDF; ComponentLink3Description: Package Specification; ComponentLink3URL: http://www.onsemi.com/pub_link/Collateral/419AD.PDF
footprint ONSC-SC70-6-419AD-01_N (SOT23, 6-Leads, Body 2.2x1.35mm, Pitch 0.65mm, IPC Medium Density)
footprint ONSC-SC70-6-419AD-01_L (SOT23, 6-Leads, Body 2.2x1.35mm, Pitch 0.65mm, IPC High Density)
footprint ONSC-SC70-6-419AD-01_M (SOT23, 6-Leads, Body 2.2x1.35mm, Pitch 0.65mm, IPC Low Density)
pins: 1 VDD (power) "Power Supply", 2 GND (power) "Ground", 3 U/~{D} (in) "Up/D\o\w\n\ Control Input. With C\S\ low, a low-to-high transition increments or decrements the wiper position.", 4 ~{CS} (in) "Chip Select Input. A high-to-low C\S\ transition determines the mode: increment if U/D\ is high, or decrement if U/D\ is low.", 5 L "Low Terminal of Resistor", 6 H "High Terminal of Resistor"

## CAT5119TBI-00-T3
designator U?
32 Tap Digital Potentiometer (POT) with 2-Wire Interface, -40 to 85 degC, 6-Pin SOT23, Pb-Free, Tape and Reel; Manufacturer: On Semiconductor; PartNumber: CAT5119TBI-00-T3; # of Pots: 1; # of Taps: 32; Control Interface: Up/Down; VDD Max (V): 5.5; DatasheetVersion: Rev. 13; PackageVersion: Rev. B, 02/2012; PackageReference: SOT23-6-527AJ; PackageDescription: 6-Pin Small Outline Transistor, Body 2.85 x 1.55 mm, Pitch 0.95 mm; Packing: Tape and Reel; RoHS: TRUE; Type: Rheostat; Mounting Technology: Surface Mount; ComponentLink1Description: Manufacturer URL; ComponentLink1URL: http://www.onsemi.com/; ComponentLink2Description: Datasheet; ComponentLink2URL: http://www.onsemi.com/pub_link/Collateral/CAT5119-D.PDF; ComponentLink3Description: Package Specification; ComponentLink3URL: http://www.onsemi.com/pub_link/Collateral/527AJ.PDF
footprint ONSC-SOT23-6-527AJ_V (SOT23, 6-Leads, Body 3x1.8mm, Pitch 0.95mm)
pins: 1 VDD (power) "Power Supply", 2 GND (power) "Ground", 3 U/~{D} (in) "Up/D\o\w\n\ Control Input. With C\S\ low, a low-to-high transition increments or decrements the wiper position.", 4 ~{CS} (in) "Chip Select Input. A high-to-low C\S\ transition determines the mode: increment if U/D\ is high, or decrement if U/D\ is low.", 5 L "Low Terminal of Resistor", 6 H "High Terminal of Resistor"

## CAT5119TBI-00GT3
designator U?
32 Tap Digital Potentiometer (POT) with 2-Wire Interface, -40 to 85 degC, 6-Pin SOT23, Pb-Free, Tape and Reel; Manufacturer: On Semiconductor; PartNumber: CAT5119TBI-00GT3; # of Pots: 1; # of Taps: 32; Control Interface: Up/Down; VDD Max (V): 5.5; DatasheetVersion: Rev. 13; PackageVersion: Rev. B, 02/2012; PackageReference: SOT23-6-527AJ; PackageDescription: 6-Pin Small Outline Transistor, Body 2.85 x 1.55 mm, Pitch 0.95 mm; Supplier 1: Digi-Key; Supplier Part Number 1: CAT5119TBI-00GT3CT-ND; Supplier 2: Digi-Key; Supplier Part Number 2: CAT5119TBI-00GT3DKR-ND; Supplier 3: Mouser; Supplier Part Number 3: 698-CAT5119TBI-00GT3; Packing: Tape and Reel; RoHS: TRUE; Type: Rheostat; Mounting Technology: Surface Mount; ComponentLink1Description: Manufacturer URL; ComponentLink1URL: http://www.onsemi.com/; ComponentLink2Description: Datasheet; ComponentLink2URL: http://www.onsemi.com/pub_link/Collateral/CAT5119-D.PDF; ComponentLink3Description: Package Specification; ComponentLink3URL: http://www.onsemi.com/pub_link/Collateral/527AJ.PDF
footprint ONSC-SOT23-6-527AJ_V (SOT23, 6-Leads, Body 3x1.8mm, Pitch 0.95mm)
pins: 1 VDD (power) "Power Supply", 2 GND (power) "Ground", 3 U/~{D} (in) "Up/D\o\w\n\ Control Input. With C\S\ low, a low-to-high transition increments or decrements the wiper position.", 4 ~{CS} (in) "Chip Select Input. A high-to-low C\S\ transition determines the mode: increment if U/D\ is high, or decrement if U/D\ is low.", 5 L "Low Terminal of Resistor", 6 H "High Terminal of Resistor"

## CAT5119TBI-10-T3
designator U?
32 Tap Digital Potentiometer (POT) with 2-Wire Interface, -40 to 85 degC, 6-Pin SOT23, Pb-Free, Tape and Reel; Manufacturer: On Semiconductor; PartNumber: CAT5119TBI-10-T3; # of Pots: 1; # of Taps: 32; Control Interface: Up/Down; VDD Max (V): 5.5; DatasheetVersion: Rev. 13; PackageVersion: Rev. B, 02/2012; PackageReference: SOT23-6-527AJ; PackageDescription: 6-Pin Small Outline Transistor, Body 2.85 x 1.55 mm, Pitch 0.95 mm; Supplier 1: Mouser; Supplier Part Number 1: 698-CAT5119TBI-10-T3; Packing: Tape and Reel; RoHS: TRUE; Type: Rheostat; Mounting Technology: Surface Mount; ComponentLink1Description: Manufacturer URL; ComponentLink1URL: http://www.onsemi.com/; ComponentLink2Description: Datasheet; ComponentLink2URL: http://www.onsemi.com/pub_link/Collateral/CAT5119-D.PDF; ComponentLink3Description: Package Specification; ComponentLink3URL: http://www.onsemi.com/pub_link/Collateral/527AJ.PDF
footprint ONSC-SOT23-6-527AJ_V (SOT23, 6-Leads, Body 3x1.8mm, Pitch 0.95mm)
pins: 1 VDD (power) "Power Supply", 2 GND (power) "Ground", 3 U/~{D} (in) "Up/D\o\w\n\ Control Input. With C\S\ low, a low-to-high transition increments or decrements the wiper position.", 4 ~{CS} (in) "Chip Select Input. A high-to-low C\S\ transition determines the mode: increment if U/D\ is high, or decrement if U/D\ is low.", 5 L "Low Terminal of Resistor", 6 H "High Terminal of Resistor"

## CAT5119TBI-10GT3
designator U?
32 Tap Digital Potentiometer (POT) with 2-Wire Interface, -40 to 85 degC, 6-Pin SOT23, Pb-Free, Tape and Reel; Manufacturer: On Semiconductor; PartNumber: CAT5119TBI-10GT3; # of Pots: 1; # of Taps: 32; Control Interface: Up/Down; VDD Max (V): 5.5; DatasheetVersion: Rev. 13; PackageVersion: Rev. B, 02/2012; PackageReference: SOT23-6-527AJ; PackageDescription: 6-Pin Small Outline Transistor, Body 2.85 x 1.55 mm, Pitch 0.95 mm; Supplier 1: Digi-Key; Supplier Part Number 1: CAT5119TBI-10GT3-ND; Supplier 2: Mouser; Supplier Part Number 2: 698-CAT5119TBI-10GT3; Packing: Tape and Reel; RoHS: TRUE; Type: Rheostat; Mounting Technology: Surface Mount; ComponentLink1Description: Manufacturer URL; ComponentLink1URL: http://www.onsemi.com/; ComponentLink2Description: Datasheet; ComponentLink2URL: http://www.onsemi.com/pub_link/Collateral/CAT5119-D.PDF; ComponentLink3Description: Package Specification; ComponentLink3URL: http://www.onsemi.com/pub_link/Collateral/527AJ.PDF
footprint ONSC-SOT23-6-527AJ_V (SOT23, 6-Leads, Body 3x1.8mm, Pitch 0.95mm)
pins: 1 VDD (power) "Power Supply", 2 GND (power) "Ground", 3 U/~{D} (in) "Up/D\o\w\n\ Control Input. With C\S\ low, a low-to-high transition increments or decrements the wiper position.", 4 ~{CS} (in) "Chip Select Input. A high-to-low C\S\ transition determines the mode: increment if U/D\ is high, or decrement if U/D\ is low.", 5 L "Low Terminal of Resistor", 6 H "High Terminal of Resistor"

## CAT5119TBI-50-T3
designator U?
32 Tap Digital Potentiometer (POT) with 2-Wire Interface, -40 to 85 degC, 6-Pin SOT23, Pb-Free, Tape and Reel; Manufacturer: On Semiconductor; PartNumber: CAT5119TBI-50-T3; # of Pots: 1; # of Taps: 32; Control Interface: Up/Down; VDD Max (V): 5.5; DatasheetVersion: Rev. 13; PackageVersion: Rev. B, 02/2012; PackageReference: SOT23-6-527AJ; PackageDescription: 6-Pin Small Outline Transistor, Body 2.85 x 1.55 mm, Pitch 0.95 mm; Supplier 1: Mouser; Supplier Part Number 1: 698-CAT5119TBI-50; Packing: Tape and Reel; RoHS: TRUE; Type: Rheostat; Mounting Technology: Surface Mount; ComponentLink1Description: Manufacturer URL; ComponentLink1URL: http://www.onsemi.com/; ComponentLink2Description: Datasheet; ComponentLink2URL: http://www.onsemi.com/pub_link/Collateral/CAT5119-D.PDF; ComponentLink3Description: Package Specification; ComponentLink3URL: http://www.onsemi.com/pub_link/Collateral/527AJ.PDF
footprint ONSC-SOT23-6-527AJ_V (SOT23, 6-Leads, Body 3x1.8mm, Pitch 0.95mm)
pins: 1 VDD (power) "Power Supply", 2 GND (power) "Ground", 3 U/~{D} (in) "Up/D\o\w\n\ Control Input. With C\S\ low, a low-to-high transition increments or decrements the wiper position.", 4 ~{CS} (in) "Chip Select Input. A high-to-low C\S\ transition determines the mode: increment if U/D\ is high, or decrement if U/D\ is low.", 5 L "Low Terminal of Resistor", 6 H "High Terminal of Resistor"